# EAGLE library part CONN_06 (library CougsInSpace)
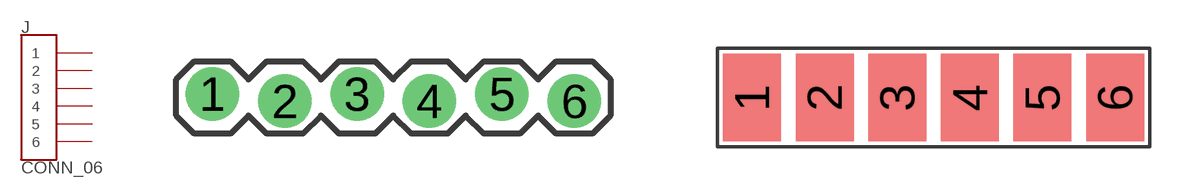
[diagram p35: symbol with the pads of 1X06_LOCK; footprints 1X06_LOCK, 1X06_SMD-2.5MM]

Designator prefix J

## CONN_061X06_LOCK  [1X06_LOCK]
1  1
2  2
3  3
4  4
5  5
6  6

## CONN_061X06_SMD-2.5MM  [1X06_SMD-2.5MM]
Pads as for 1X06_LOCK

## CONN_061X06_SMD-2.54MM-R  [1X06_SMD-2.54MM-R]
Pads as for 1X06_LOCK

## Footprint 1X06_LOCK (pad centres in mm)
Plated Through Hole - 6 Pin with Locking Footprint Holes are offset 0.005" from center, locking pins in place during soldering. Specifications: Pin count:6 Pin pitch:0.1" Example device(s): CONN_06
drill 1.016 pad 1.88: 1 0,0; 2 2.54,-0.254; 3 5.08,0; 4 7.62,-0.254; 5 10.16,0; 6 12.7,-0.254

## Footprint 1X06_SMD-2.5MM (pad centres in mm)
smd 2 x 3: 1 -6.25,0; 2 -3.75,0; 3 -1.25,0; 4 1.25,0; 5 3.75,0; 6 6.25,0

## Footprint 1X06_SMD-2.54MM-R (pad centres in mm)
smd 1 x 2.5: 1 -6.35,0; 2 -3.81,0; 3 -1.27,0; 4 1.27,0; 5 3.81,0; 6 6.35,0